# Altium integrated library Actel ProASIC3 nano.IntLib: 84 symbols (part 1 of 10)
Pins are listed as number, name and electrical type; pins without a type are passive.

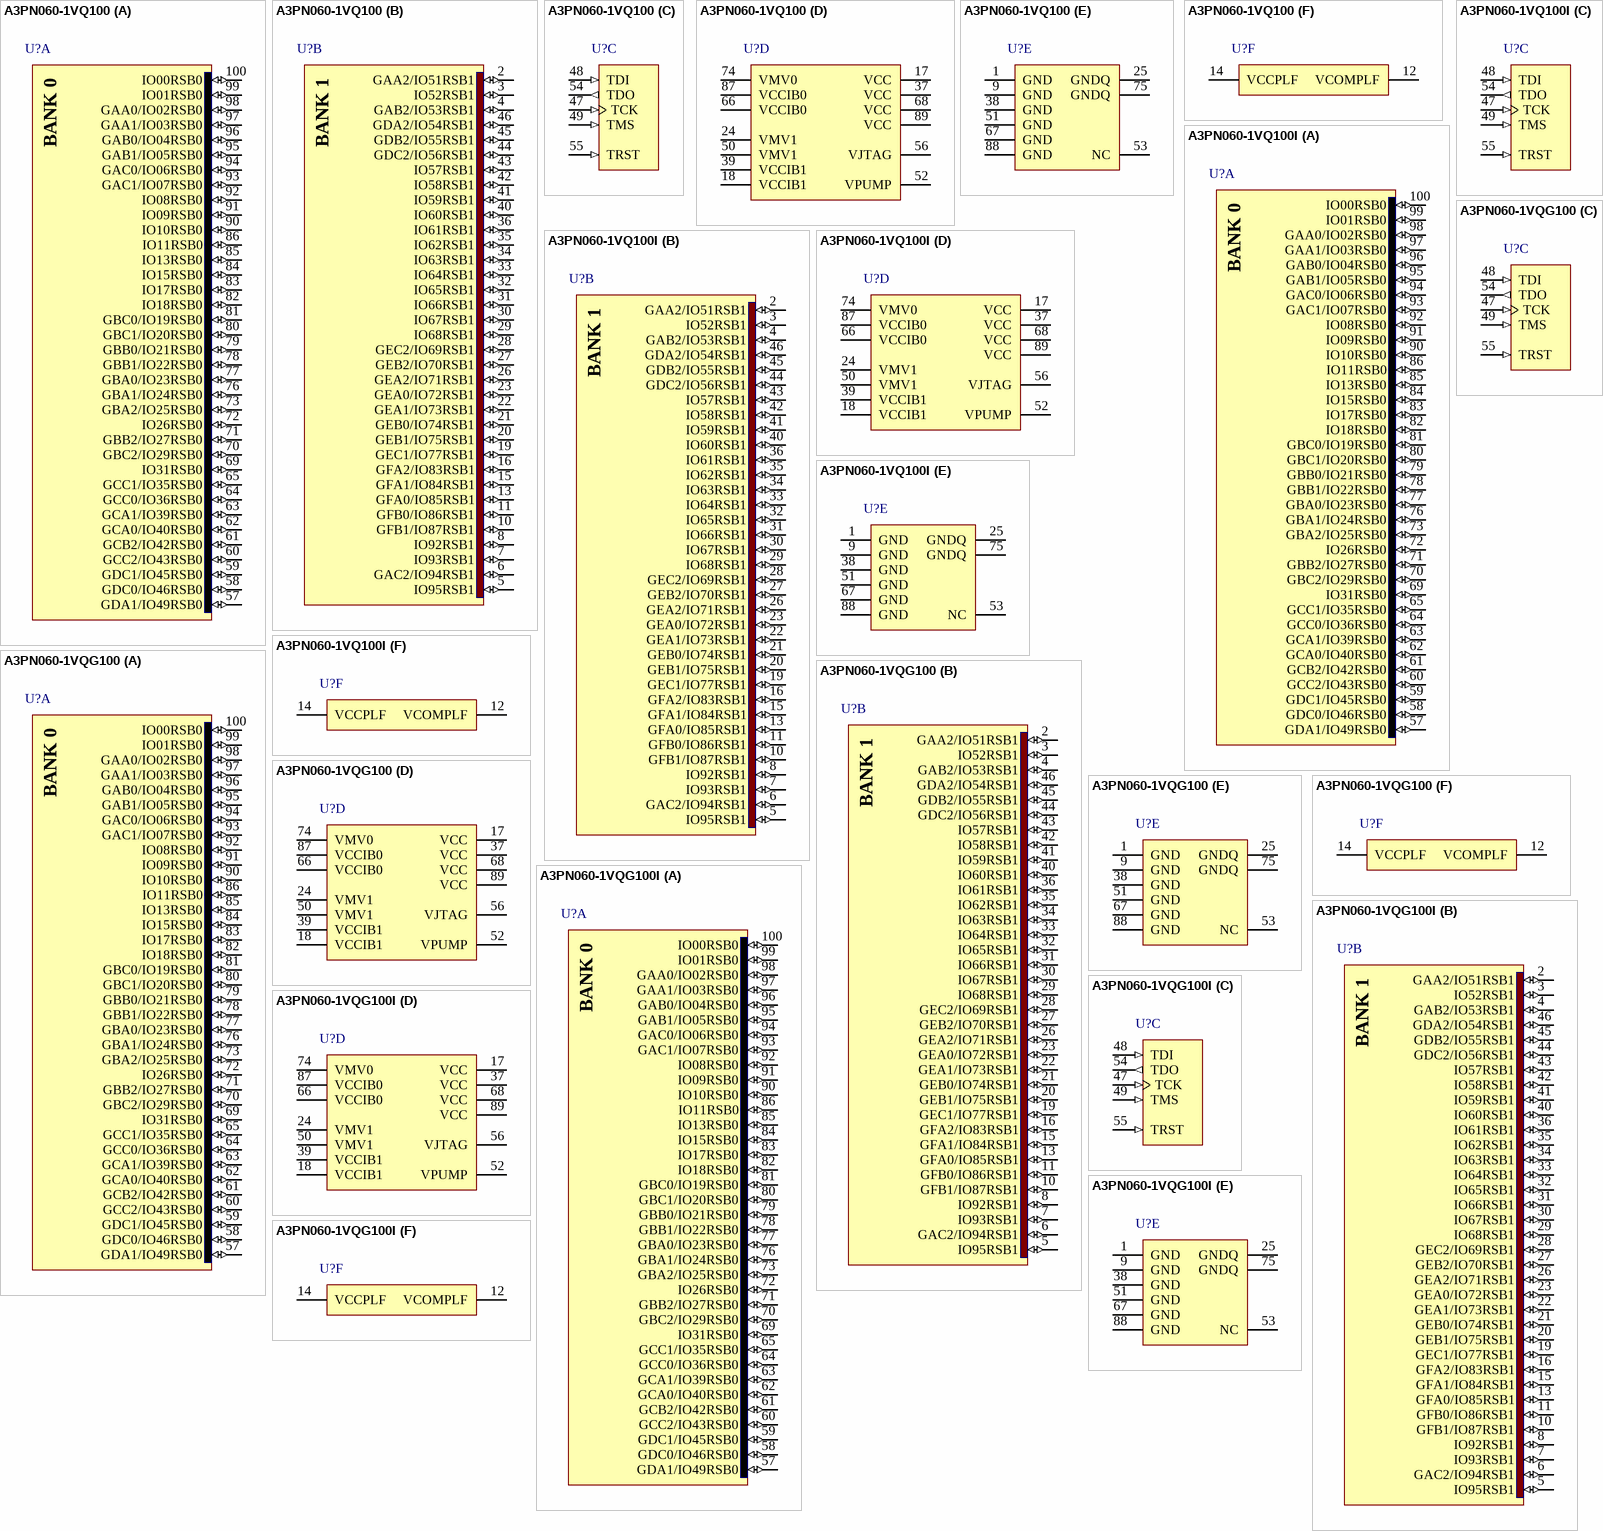
[diagram p0: symbols A3PN060-1VQ100 to A3PN060-1VQG100I]

## A3PN060-1VQ100
designator U?
ProASIC3 nano Flash FPGA, 71 User IOs, 60K System Gates, Speed 15% above Standard, 100-Pin VQFP, Commerical Grade; Published: 30-Apr-2009; DatasheetVersion: v1.2, Dec-2008; PackageVersion: v11.0, Feb-2009; PackageReference: VQ100; Publisher: Altium Limited; PackageDescription: 100-Pin Plastic Quad Flat Pack (VQ100); Code_JEDEC: MS-026-AED; ComponentLink1Description: Manufacturer Link; ComponentLink1URL: http://www.actel.com/products/pa3nano/default.aspx; ComponentLink2Description: Datasheet; ComponentLink2URL: http://www.actel.com/documents/PA3_nano_HB.pdf; ComponentLink3Description: Packaging Specification; ComponentLink3URL: http://www.actel.com/documents/PckgMechDrwngs.pdf
footprint VQ100_N (Thin QFP, 100-Leads, Body 14x14mm, Pitch 0.5mm, IPC Medium Density)
footprint VQ100_L (Thin QFP, 100-Leads, Body 14x14mm, Pitch 0.5mm, IPC High Density)
footprint VQ100_M (Thin QFP, 100-Leads, Body 14x14mm, Pitch 0.5mm, IPC Low Density)
3D model A3PN060-VQ100 (100-Pin Plastic Quad Flat Pack (VQ100))
signal-integrity model A3PN060_VQ100 (ProASIC3 nano)
part A pins: 57 GDA1/IO49RSB0 (io) "Global Input/Output", 58 GDC0/IO46RSB0 (io) "Global Input/Output", 59 GDC1/IO45RSB0 (io) "Global Input/Output", 60 GCC2/IO43RSB0 (io) "Global Input/Output", 61 GCB2/IO42RSB0 (io) "Global Input/Output", 62 GCA0/IO40RSB0 (io) "Global Input/Output", 63 GCA1/IO39RSB0 (io) "Global Input/Output", 64 GCC0/IO36RSB0 (io) "Global Input/Output", 65 GCC1/IO35RSB0 (io) "Global Input/Output", 69 IO31RSB0 (io) "User Input/Output", 70 GBC2/IO29RSB0 (io) "Global Input/Output", 71 GBB2/IO27RSB0 (io) "Global Input/Output", 72 IO26RSB0 (io) "User Input/Output", 73 GBA2/IO25RSB0 (io) "Global Input/Output", 76 GBA1/IO24RSB0 (io) "Global Input/Output", 77 GBA0/IO23RSB0 (io) "Global Input/Output", 78 GBB1/IO22RSB0 (io) "Global Input/Output", 79 GBB0/IO21RSB0 (io) "Global Input/Output", 80 GBC1/IO20RSB0 (io) "Global Input/Output", 81 GBC0/IO19RSB0 (io) "Global Input/Output", 82 IO18RSB0 (io) "User Input/Output", 83 IO17RSB0 (io) "User Input/Output", 84 IO15RSB0 (io) "User Input/Output", 85 IO13RSB0 (io) "User Input/Output", 86 IO11RSB0 (io) "User Input/Output", 90 IO10RSB0 (io) "User Input/Output", 91 IO09RSB0 (io) "User Input/Output", 92 IO08RSB0 (io) "User Input/Output", 93 GAC1/IO07RSB0 (io) "Global Input/Output", 94 GAC0/IO06RSB0 (io) "Global Input/Output", 95 GAB1/IO05RSB0 (io) "Global Input/Output", 96 GAB0/IO04RSB0 (io) "Global Input/Output", 97 GAA1/IO03RSB0 (io) "Global Input/Output", 98 GAA0/IO02RSB0 (io) "Global Input/Output", 99 IO01RSB0 (io) "User Input/Output", 100 IO00RSB0 (io) "User Input/Output"
part B pins: 2 GAA2/IO51RSB1 (io) "Global Input/Output", 3 IO52RSB1 (io) "User Input/Output", 4 GAB2/IO53RSB1 (io) "Global Input/Output", 5 IO95RSB1 (io) "User Input/Output", 6 GAC2/IO94RSB1 (io) "Global Input/Output", 7 IO93RSB1 (io) "User Input/Output", 8 IO92RSB1 (io) "User Input/Output", 10 GFB1/IO87RSB1 (io) "Global Input/Output", 11 GFB0/IO86RSB1 (io) "Global Input/Output", 13 GFA0/IO85RSB1 (io) "Global Input/Output", 15 GFA1/IO84RSB1 (io) "Global Input/Output", 16 GFA2/IO83RSB1 (io) "Global Input/Output", 19 GEC1/IO77RSB1 (io) "Global Input/Output", 20 GEB1/IO75RSB1 (io) "Global Input/Output", 21 GEB0/IO74RSB1 (io) "Global Input/Output", 22 GEA1/IO73RSB1 (io) "Global Input/Output", 23 GEA0/IO72RSB1 (io) "Global Input/Output", 26 GEA2/IO71RSB1 (io) "Global Input/Output", 27 GEB2/IO70RSB1 (io) "Global Input/Output", 28 GEC2/IO69RSB1 (io) "Global Input/Output", 29 IO68RSB1 (io) "User Input/Output", 30 IO67RSB1 (io) "User Input/Output", 31 IO66RSB1 (io) "User Input/Output", 32 IO65RSB1 (io) "User Input/Output", 33 IO64RSB1 (io) "User Input/Output", 34 IO63RSB1 (io) "User Input/Output", 35 IO62RSB1 (io) "User Input/Output", 36 IO61RSB1 (io) "User Input/Output", 40 IO60RSB1 (io) "User Input/Output", 41 IO59RSB1 (io) "User Input/Output", 42 IO58RSB1 (io) "User Input/Output", 43 IO57RSB1 (io) "User Input/Output", 44 GDC2/IO56RSB1 (io) "Global Input/Output", 45 GDB2/IO55RSB1 (io) "Global Input/Output", 46 GDA2/IO54RSB1 (io) "Global Input/Output"
part C pins: 47 TCK (in) "Test Clock", 48 TDI (in) "Test Data Input", 49 TMS (in) "Test Mode Select", 54 TDO (out) "Test Data Output", 55 TRST (in) "Boundary Scan Reset Pin"
part D pins: 17 VCC (power) "Core Supply Voltage", 18 VCCIB1 (power) "I/O Supply Voltage", 24 VMV1 (power) "I/O Supply Voltage (quiet)", 37 VCC (power) "Core Supply Voltage", 39 VCCIB1 (power) "I/O Supply Voltage", 50 VMV1 (power) "I/O Supply Voltage (quiet)", 52 VPUMP (power) "Programming Supply Voltage", 56 VJTAG (power) "JTAG Supply Voltage", 66 VCCIB0 (power) "I/O Supply Voltage", 68 VCC (power) "Core Supply Voltage", 74 VMV0 (power) "I/O Supply Voltage (quiet)", 87 VCCIB0 (power) "I/O Supply Voltage", 89 VCC (power) "Core Supply Voltage"
part E pins: 1 GND (power) "Ground", 9 GND (power) "Ground", 25 GNDQ (power) "Ground (Quiet)", 38 GND (power) "Ground", 51 GND (power) "Ground", 53 NC "No Connect", 67 GND (power) "Ground", 75 GNDQ (power) "Ground (Quiet)", 88 GND (power) "Ground"
part F pins: 12 VCOMPLF (power) "PLL Ground", 14 VCCPLF (power) "PLL Supply Voltage"
part A text: BANK 0
part B text: BANK 1

## A3PN060-1VQ100I
designator U?
ProASIC3 nano Flash FPGA, 71 User IOs, 60K System Gates, Speed 15% above Standard, 100-Pin VQFP, Industrial Grade; Published: 30-Apr-2009; DatasheetVersion: v1.2, Dec-2008; PackageVersion: v11.0, Feb-2009; PackageReference: VQ100; Publisher: Altium Limited; PackageDescription: 100-Pin Plastic Quad Flat Pack (VQ100); Code_JEDEC: MS-026-AED; ComponentLink1Description: Manufacturer Link; ComponentLink1URL: http://www.actel.com/products/pa3nano/default.aspx; ComponentLink2Description: Datasheet; ComponentLink2URL: http://www.actel.com/documents/PA3_nano_HB.pdf; ComponentLink3Description: Packaging Specification; ComponentLink3URL: http://www.actel.com/documents/PckgMechDrwngs.pdf
footprint VQ100_N (Thin QFP, 100-Leads, Body 14x14mm, Pitch 0.5mm, IPC Medium Density)
footprint VQ100_L (Thin QFP, 100-Leads, Body 14x14mm, Pitch 0.5mm, IPC High Density)
footprint VQ100_M (Thin QFP, 100-Leads, Body 14x14mm, Pitch 0.5mm, IPC Low Density)
3D model A3PN060-VQ100 (100-Pin Plastic Quad Flat Pack (VQ100))
signal-integrity model A3PN060_VQ100 (ProASIC3 nano)
part A pins: 57 GDA1/IO49RSB0 (io) "Global Input/Output", 58 GDC0/IO46RSB0 (io) "Global Input/Output", 59 GDC1/IO45RSB0 (io) "Global Input/Output", 60 GCC2/IO43RSB0 (io) "Global Input/Output", 61 GCB2/IO42RSB0 (io) "Global Input/Output", 62 GCA0/IO40RSB0 (io) "Global Input/Output", 63 GCA1/IO39RSB0 (io) "Global Input/Output", 64 GCC0/IO36RSB0 (io) "Global Input/Output", 65 GCC1/IO35RSB0 (io) "Global Input/Output", 69 IO31RSB0 (io) "User Input/Output", 70 GBC2/IO29RSB0 (io) "Global Input/Output", 71 GBB2/IO27RSB0 (io) "Global Input/Output", 72 IO26RSB0 (io) "User Input/Output", 73 GBA2/IO25RSB0 (io) "Global Input/Output", 76 GBA1/IO24RSB0 (io) "Global Input/Output", 77 GBA0/IO23RSB0 (io) "Global Input/Output", 78 GBB1/IO22RSB0 (io) "Global Input/Output", 79 GBB0/IO21RSB0 (io) "Global Input/Output", 80 GBC1/IO20RSB0 (io) "Global Input/Output", 81 GBC0/IO19RSB0 (io) "Global Input/Output", 82 IO18RSB0 (io) "User Input/Output", 83 IO17RSB0 (io) "User Input/Output", 84 IO15RSB0 (io) "User Input/Output", 85 IO13RSB0 (io) "User Input/Output", 86 IO11RSB0 (io) "User Input/Output", 90 IO10RSB0 (io) "User Input/Output", 91 IO09RSB0 (io) "User Input/Output", 92 IO08RSB0 (io) "User Input/Output", 93 GAC1/IO07RSB0 (io) "Global Input/Output", 94 GAC0/IO06RSB0 (io) "Global Input/Output", 95 GAB1/IO05RSB0 (io) "Global Input/Output", 96 GAB0/IO04RSB0 (io) "Global Input/Output", 97 GAA1/IO03RSB0 (io) "Global Input/Output", 98 GAA0/IO02RSB0 (io) "Global Input/Output", 99 IO01RSB0 (io) "User Input/Output", 100 IO00RSB0 (io) "User Input/Output"
part B pins: 2 GAA2/IO51RSB1 (io) "Global Input/Output", 3 IO52RSB1 (io) "User Input/Output", 4 GAB2/IO53RSB1 (io) "Global Input/Output", 5 IO95RSB1 (io) "User Input/Output", 6 GAC2/IO94RSB1 (io) "Global Input/Output", 7 IO93RSB1 (io) "User Input/Output", 8 IO92RSB1 (io) "User Input/Output", 10 GFB1/IO87RSB1 (io) "Global Input/Output", 11 GFB0/IO86RSB1 (io) "Global Input/Output", 13 GFA0/IO85RSB1 (io) "Global Input/Output", 15 GFA1/IO84RSB1 (io) "Global Input/Output", 16 GFA2/IO83RSB1 (io) "Global Input/Output", 19 GEC1/IO77RSB1 (io) "Global Input/Output", 20 GEB1/IO75RSB1 (io) "Global Input/Output", 21 GEB0/IO74RSB1 (io) "Global Input/Output", 22 GEA1/IO73RSB1 (io) "Global Input/Output", 23 GEA0/IO72RSB1 (io) "Global Input/Output", 26 GEA2/IO71RSB1 (io) "Global Input/Output", 27 GEB2/IO70RSB1 (io) "Global Input/Output", 28 GEC2/IO69RSB1 (io) "Global Input/Output", 29 IO68RSB1 (io) "User Input/Output", 30 IO67RSB1 (io) "User Input/Output", 31 IO66RSB1 (io) "User Input/Output", 32 IO65RSB1 (io) "User Input/Output", 33 IO64RSB1 (io) "User Input/Output", 34 IO63RSB1 (io) "User Input/Output", 35 IO62RSB1 (io) "User Input/Output", 36 IO61RSB1 (io) "User Input/Output", 40 IO60RSB1 (io) "User Input/Output", 41 IO59RSB1 (io) "User Input/Output", 42 IO58RSB1 (io) "User Input/Output", 43 IO57RSB1 (io) "User Input/Output", 44 GDC2/IO56RSB1 (io) "Global Input/Output", 45 GDB2/IO55RSB1 (io) "Global Input/Output", 46 GDA2/IO54RSB1 (io) "Global Input/Output"
part C pins: 47 TCK (in) "Test Clock", 48 TDI (in) "Test Data Input", 49 TMS (in) "Test Mode Select", 54 TDO (out) "Test Data Output", 55 TRST (in) "Boundary Scan Reset Pin"
part D pins: 17 VCC (power) "Core Supply Voltage", 18 VCCIB1 (power) "I/O Supply Voltage", 24 VMV1 (power) "I/O Supply Voltage (quiet)", 37 VCC (power) "Core Supply Voltage", 39 VCCIB1 (power) "I/O Supply Voltage", 50 VMV1 (power) "I/O Supply Voltage (quiet)", 52 VPUMP (power) "Programming Supply Voltage", 56 VJTAG (power) "JTAG Supply Voltage", 66 VCCIB0 (power) "I/O Supply Voltage", 68 VCC (power) "Core Supply Voltage", 74 VMV0 (power) "I/O Supply Voltage (quiet)", 87 VCCIB0 (power) "I/O Supply Voltage", 89 VCC (power) "Core Supply Voltage"
part E pins: 1 GND (power) "Ground", 9 GND (power) "Ground", 25 GNDQ (power) "Ground (Quiet)", 38 GND (power) "Ground", 51 GND (power) "Ground", 53 NC "No Connect", 67 GND (power) "Ground", 75 GNDQ (power) "Ground (Quiet)", 88 GND (power) "Ground"
part F pins: 12 VCOMPLF (power) "PLL Ground", 14 VCCPLF (power) "PLL Supply Voltage"
part A text: BANK 0
part B text: BANK 1

## A3PN060-1VQG100
designator U?
ProASIC3 nano Flash FPGA, 71 User IOs, 60K System Gates, Speed 15% above Standard, 100-Pin VQFP, Pb-Free, Commerical Grade; Published: 30-Apr-2009; DatasheetVersion: v1.2, Dec-2008; PackageVersion: v11.0, Feb-2009; PackageReference: VQ100; Publisher: Altium Limited; PackageDescription: 100-Pin Plastic Quad Flat Pack (VQ100); Code_JEDEC: MS-026-AED; ComponentLink1Description: Manufacturer Link; ComponentLink1URL: http://www.actel.com/products/pa3nano/default.aspx; ComponentLink2Description: Datasheet; ComponentLink2URL: http://www.actel.com/documents/PA3_nano_HB.pdf; ComponentLink3Description: Packaging Specification; ComponentLink3URL: http://www.actel.com/documents/PckgMechDrwngs.pdf
footprint VQ100_N (Thin QFP, 100-Leads, Body 14x14mm, Pitch 0.5mm, IPC Medium Density)
footprint VQ100_L (Thin QFP, 100-Leads, Body 14x14mm, Pitch 0.5mm, IPC High Density)
footprint VQ100_M (Thin QFP, 100-Leads, Body 14x14mm, Pitch 0.5mm, IPC Low Density)
3D model A3PN060-VQ100 (100-Pin Plastic Quad Flat Pack (VQ100))
signal-integrity model A3PN060_VQ100 (ProASIC3 nano)
part A pins: 57 GDA1/IO49RSB0 (io) "Global Input/Output", 58 GDC0/IO46RSB0 (io) "Global Input/Output", 59 GDC1/IO45RSB0 (io) "Global Input/Output", 60 GCC2/IO43RSB0 (io) "Global Input/Output", 61 GCB2/IO42RSB0 (io) "Global Input/Output", 62 GCA0/IO40RSB0 (io) "Global Input/Output", 63 GCA1/IO39RSB0 (io) "Global Input/Output", 64 GCC0/IO36RSB0 (io) "Global Input/Output", 65 GCC1/IO35RSB0 (io) "Global Input/Output", 69 IO31RSB0 (io) "User Input/Output", 70 GBC2/IO29RSB0 (io) "Global Input/Output", 71 GBB2/IO27RSB0 (io) "Global Input/Output", 72 IO26RSB0 (io) "User Input/Output", 73 GBA2/IO25RSB0 (io) "Global Input/Output", 76 GBA1/IO24RSB0 (io) "Global Input/Output", 77 GBA0/IO23RSB0 (io) "Global Input/Output", 78 GBB1/IO22RSB0 (io) "Global Input/Output", 79 GBB0/IO21RSB0 (io) "Global Input/Output", 80 GBC1/IO20RSB0 (io) "Global Input/Output", 81 GBC0/IO19RSB0 (io) "Global Input/Output", 82 IO18RSB0 (io) "User Input/Output", 83 IO17RSB0 (io) "User Input/Output", 84 IO15RSB0 (io) "User Input/Output", 85 IO13RSB0 (io) "User Input/Output", 86 IO11RSB0 (io) "User Input/Output", 90 IO10RSB0 (io) "User Input/Output", 91 IO09RSB0 (io) "User Input/Output", 92 IO08RSB0 (io) "User Input/Output", 93 GAC1/IO07RSB0 (io) "Global Input/Output", 94 GAC0/IO06RSB0 (io) "Global Input/Output", 95 GAB1/IO05RSB0 (io) "Global Input/Output", 96 GAB0/IO04RSB0 (io) "Global Input/Output", 97 GAA1/IO03RSB0 (io) "Global Input/Output", 98 GAA0/IO02RSB0 (io) "Global Input/Output", 99 IO01RSB0 (io) "User Input/Output", 100 IO00RSB0 (io) "User Input/Output"
part B pins: 2 GAA2/IO51RSB1 (io) "Global Input/Output", 3 IO52RSB1 (io) "User Input/Output", 4 GAB2/IO53RSB1 (io) "Global Input/Output", 5 IO95RSB1 (io) "User Input/Output", 6 GAC2/IO94RSB1 (io) "Global Input/Output", 7 IO93RSB1 (io) "User Input/Output", 8 IO92RSB1 (io) "User Input/Output", 10 GFB1/IO87RSB1 (io) "Global Input/Output", 11 GFB0/IO86RSB1 (io) "Global Input/Output", 13 GFA0/IO85RSB1 (io) "Global Input/Output", 15 GFA1/IO84RSB1 (io) "Global Input/Output", 16 GFA2/IO83RSB1 (io) "Global Input/Output", 19 GEC1/IO77RSB1 (io) "Global Input/Output", 20 GEB1/IO75RSB1 (io) "Global Input/Output", 21 GEB0/IO74RSB1 (io) "Global Input/Output", 22 GEA1/IO73RSB1 (io) "Global Input/Output", 23 GEA0/IO72RSB1 (io) "Global Input/Output", 26 GEA2/IO71RSB1 (io) "Global Input/Output", 27 GEB2/IO70RSB1 (io) "Global Input/Output", 28 GEC2/IO69RSB1 (io) "Global Input/Output", 29 IO68RSB1 (io) "User Input/Output", 30 IO67RSB1 (io) "User Input/Output", 31 IO66RSB1 (io) "User Input/Output", 32 IO65RSB1 (io) "User Input/Output", 33 IO64RSB1 (io) "User Input/Output", 34 IO63RSB1 (io) "User Input/Output", 35 IO62RSB1 (io) "User Input/Output", 36 IO61RSB1 (io) "User Input/Output", 40 IO60RSB1 (io) "User Input/Output", 41 IO59RSB1 (io) "User Input/Output", 42 IO58RSB1 (io) "User Input/Output", 43 IO57RSB1 (io) "User Input/Output", 44 GDC2/IO56RSB1 (io) "Global Input/Output", 45 GDB2/IO55RSB1 (io) "Global Input/Output", 46 GDA2/IO54RSB1 (io) "Global Input/Output"
part C pins: 47 TCK (in) "Test Clock", 48 TDI (in) "Test Data Input", 49 TMS (in) "Test Mode Select", 54 TDO (out) "Test Data Output", 55 TRST (in) "Boundary Scan Reset Pin"
part D pins: 17 VCC (power) "Core Supply Voltage", 18 VCCIB1 (power) "I/O Supply Voltage", 24 VMV1 (power) "I/O Supply Voltage (quiet)", 37 VCC (power) "Core Supply Voltage", 39 VCCIB1 (power) "I/O Supply Voltage", 50 VMV1 (power) "I/O Supply Voltage (quiet)", 52 VPUMP (power) "Programming Supply Voltage", 56 VJTAG (power) "JTAG Supply Voltage", 66 VCCIB0 (power) "I/O Supply Voltage", 68 VCC (power) "Core Supply Voltage", 74 VMV0 (power) "I/O Supply Voltage (quiet)", 87 VCCIB0 (power) "I/O Supply Voltage", 89 VCC (power) "Core Supply Voltage"
part E pins: 1 GND (power) "Ground", 9 GND (power) "Ground", 25 GNDQ (power) "Ground (Quiet)", 38 GND (power) "Ground", 51 GND (power) "Ground", 53 NC "No Connect", 67 GND (power) "Ground", 75 GNDQ (power) "Ground (Quiet)", 88 GND (power) "Ground"
part F pins: 12 VCOMPLF (power) "PLL Ground", 14 VCCPLF (power) "PLL Supply Voltage"
part A text: BANK 0
part B text: BANK 1

## A3PN060-1VQG100I
designator U?
ProASIC3 nano Flash FPGA, 71 User IOs, 60K System Gates, Speed 15% above Standard, 100-Pin VQFP, Pb-Free, Industrial Grade; Published: 30-Apr-2009; DatasheetVersion: v1.2, Dec-2008; PackageVersion: v11.0, Feb-2009; PackageReference: VQ100; Publisher: Altium Limited; PackageDescription: 100-Pin Plastic Quad Flat Pack (VQ100); Code_JEDEC: MS-026-AED; ComponentLink1Description: Manufacturer Link; ComponentLink1URL: http://www.actel.com/products/pa3nano/default.aspx; ComponentLink2Description: Datasheet; ComponentLink2URL: http://www.actel.com/documents/PA3_nano_HB.pdf; ComponentLink3Description: Packaging Specification; ComponentLink3URL: http://www.actel.com/documents/PckgMechDrwngs.pdf
footprint VQ100_N (Thin QFP, 100-Leads, Body 14x14mm, Pitch 0.5mm, IPC Medium Density)
footprint VQ100_L (Thin QFP, 100-Leads, Body 14x14mm, Pitch 0.5mm, IPC High Density)
footprint VQ100_M (Thin QFP, 100-Leads, Body 14x14mm, Pitch 0.5mm, IPC Low Density)
3D model A3PN060-VQ100 (100-Pin Plastic Quad Flat Pack (VQ100))
signal-integrity model A3PN060_VQ100 (ProASIC3 nano)
part A pins: 57 GDA1/IO49RSB0 (io) "Global Input/Output", 58 GDC0/IO46RSB0 (io) "Global Input/Output", 59 GDC1/IO45RSB0 (io) "Global Input/Output", 60 GCC2/IO43RSB0 (io) "Global Input/Output", 61 GCB2/IO42RSB0 (io) "Global Input/Output", 62 GCA0/IO40RSB0 (io) "Global Input/Output", 63 GCA1/IO39RSB0 (io) "Global Input/Output", 64 GCC0/IO36RSB0 (io) "Global Input/Output", 65 GCC1/IO35RSB0 (io) "Global Input/Output", 69 IO31RSB0 (io) "User Input/Output", 70 GBC2/IO29RSB0 (io) "Global Input/Output", 71 GBB2/IO27RSB0 (io) "Global Input/Output", 72 IO26RSB0 (io) "User Input/Output", 73 GBA2/IO25RSB0 (io) "Global Input/Output", 76 GBA1/IO24RSB0 (io) "Global Input/Output", 77 GBA0/IO23RSB0 (io) "Global Input/Output", 78 GBB1/IO22RSB0 (io) "Global Input/Output", 79 GBB0/IO21RSB0 (io) "Global Input/Output", 80 GBC1/IO20RSB0 (io) "Global Input/Output", 81 GBC0/IO19RSB0 (io) "Global Input/Output", 82 IO18RSB0 (io) "User Input/Output", 83 IO17RSB0 (io) "User Input/Output", 84 IO15RSB0 (io) "User Input/Output", 85 IO13RSB0 (io) "User Input/Output", 86 IO11RSB0 (io) "User Input/Output", 90 IO10RSB0 (io) "User Input/Output", 91 IO09RSB0 (io) "User Input/Output", 92 IO08RSB0 (io) "User Input/Output", 93 GAC1/IO07RSB0 (io) "Global Input/Output", 94 GAC0/IO06RSB0 (io) "Global Input/Output", 95 GAB1/IO05RSB0 (io) "Global Input/Output", 96 GAB0/IO04RSB0 (io) "Global Input/Output", 97 GAA1/IO03RSB0 (io) "Global Input/Output", 98 GAA0/IO02RSB0 (io) "Global Input/Output", 99 IO01RSB0 (io) "User Input/Output", 100 IO00RSB0 (io) "User Input/Output"
part B pins: 2 GAA2/IO51RSB1 (io) "Global Input/Output", 3 IO52RSB1 (io) "User Input/Output", 4 GAB2/IO53RSB1 (io) "Global Input/Output", 5 IO95RSB1 (io) "User Input/Output", 6 GAC2/IO94RSB1 (io) "Global Input/Output", 7 IO93RSB1 (io) "User Input/Output", 8 IO92RSB1 (io) "User Input/Output", 10 GFB1/IO87RSB1 (io) "Global Input/Output", 11 GFB0/IO86RSB1 (io) "Global Input/Output", 13 GFA0/IO85RSB1 (io) "Global Input/Output", 15 GFA1/IO84RSB1 (io) "Global Input/Output", 16 GFA2/IO83RSB1 (io) "Global Input/Output", 19 GEC1/IO77RSB1 (io) "Global Input/Output", 20 GEB1/IO75RSB1 (io) "Global Input/Output", 21 GEB0/IO74RSB1 (io) "Global Input/Output", 22 GEA1/IO73RSB1 (io) "Global Input/Output", 23 GEA0/IO72RSB1 (io) "Global Input/Output", 26 GEA2/IO71RSB1 (io) "Global Input/Output", 27 GEB2/IO70RSB1 (io) "Global Input/Output", 28 GEC2/IO69RSB1 (io) "Global Input/Output", 29 IO68RSB1 (io) "User Input/Output", 30 IO67RSB1 (io) "User Input/Output", 31 IO66RSB1 (io) "User Input/Output", 32 IO65RSB1 (io) "User Input/Output", 33 IO64RSB1 (io) "User Input/Output", 34 IO63RSB1 (io) "User Input/Output", 35 IO62RSB1 (io) "User Input/Output", 36 IO61RSB1 (io) "User Input/Output", 40 IO60RSB1 (io) "User Input/Output", 41 IO59RSB1 (io) "User Input/Output", 42 IO58RSB1 (io) "User Input/Output", 43 IO57RSB1 (io) "User Input/Output", 44 GDC2/IO56RSB1 (io) "Global Input/Output", 45 GDB2/IO55RSB1 (io) "Global Input/Output", 46 GDA2/IO54RSB1 (io) "Global Input/Output"
part C pins: 47 TCK (in) "Test Clock", 48 TDI (in) "Test Data Input", 49 TMS (in) "Test Mode Select", 54 TDO (out) "Test Data Output", 55 TRST (in) "Boundary Scan Reset Pin"
part D pins: 17 VCC (power) "Core Supply Voltage", 18 VCCIB1 (power) "I/O Supply Voltage", 24 VMV1 (power) "I/O Supply Voltage (quiet)", 37 VCC (power) "Core Supply Voltage", 39 VCCIB1 (power) "I/O Supply Voltage", 50 VMV1 (power) "I/O Supply Voltage (quiet)", 52 VPUMP (power) "Programming Supply Voltage", 56 VJTAG (power) "JTAG Supply Voltage", 66 VCCIB0 (power) "I/O Supply Voltage", 68 VCC (power) "Core Supply Voltage", 74 VMV0 (power) "I/O Supply Voltage (quiet)", 87 VCCIB0 (power) "I/O Supply Voltage", 89 VCC (power) "Core Supply Voltage"
part E pins: 1 GND (power) "Ground", 9 GND (power) "Ground", 25 GNDQ (power) "Ground (Quiet)", 38 GND (power) "Ground", 51 GND (power) "Ground", 53 NC "No Connect", 67 GND (power) "Ground", 75 GNDQ (power) "Ground (Quiet)", 88 GND (power) "Ground"
part F pins: 12 VCOMPLF (power) "PLL Ground", 14 VCCPLF (power) "PLL Supply Voltage"
part A text: BANK 0
part B text: BANK 1

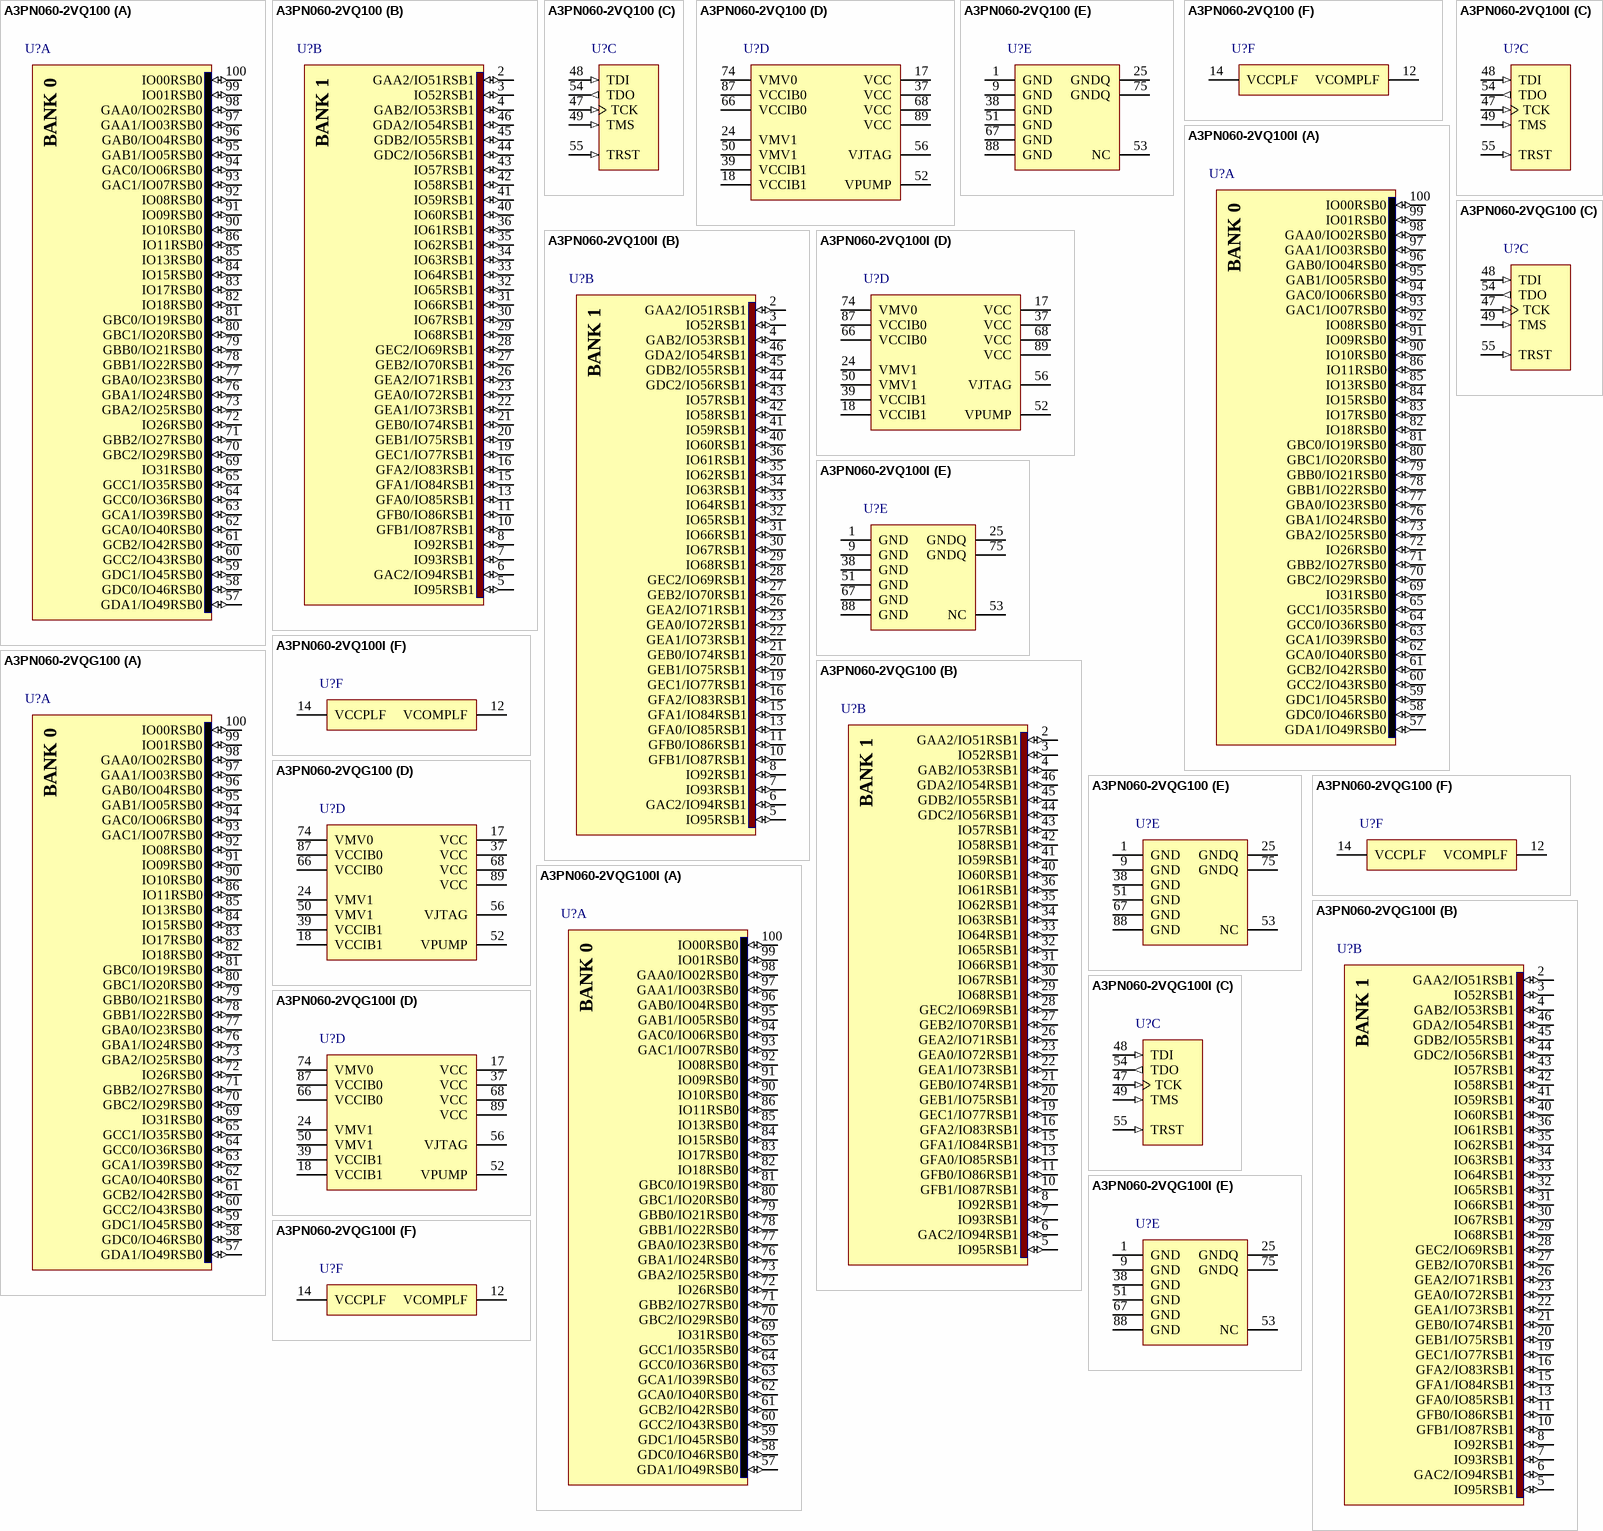
[diagram p1: symbols A3PN060-2VQ100 to A3PN060-2VQG100I]

## A3PN060-2VQ100
designator U?
ProASIC3 nano Flash FPGA, 71 User IOs, 60K System Gates, Speed 25% above Standard, 100-Pin VQFP, Commerical Grade; Published: 30-Apr-2009; DatasheetVersion: v1.2, Dec-2008; PackageVersion: v11.0, Feb-2009; PackageReference: VQ100; Publisher: Altium Limited; PackageDescription: 100-Pin Plastic Quad Flat Pack (VQ100); Code_JEDEC: MS-026-AED; ComponentLink1Description: Manufacturer Link; ComponentLink1URL: http://www.actel.com/products/pa3nano/default.aspx; ComponentLink2Description: Datasheet; ComponentLink2URL: http://www.actel.com/documents/PA3_nano_HB.pdf; ComponentLink3Description: Packaging Specification; ComponentLink3URL: http://www.actel.com/documents/PckgMechDrwngs.pdf
footprint VQ100_N (Thin QFP, 100-Leads, Body 14x14mm, Pitch 0.5mm, IPC Medium Density)
footprint VQ100_L (Thin QFP, 100-Leads, Body 14x14mm, Pitch 0.5mm, IPC High Density)
footprint VQ100_M (Thin QFP, 100-Leads, Body 14x14mm, Pitch 0.5mm, IPC Low Density)
3D model A3PN060-VQ100 (100-Pin Plastic Quad Flat Pack (VQ100))
signal-integrity model A3PN060_VQ100 (ProASIC3 nano)
part A pins: 57 GDA1/IO49RSB0 (io) "Global Input/Output", 58 GDC0/IO46RSB0 (io) "Global Input/Output", 59 GDC1/IO45RSB0 (io) "Global Input/Output", 60 GCC2/IO43RSB0 (io) "Global Input/Output", 61 GCB2/IO42RSB0 (io) "Global Input/Output", 62 GCA0/IO40RSB0 (io) "Global Input/Output", 63 GCA1/IO39RSB0 (io) "Global Input/Output", 64 GCC0/IO36RSB0 (io) "Global Input/Output", 65 GCC1/IO35RSB0 (io) "Global Input/Output", 69 IO31RSB0 (io) "User Input/Output", 70 GBC2/IO29RSB0 (io) "Global Input/Output", 71 GBB2/IO27RSB0 (io) "Global Input/Output", 72 IO26RSB0 (io) "User Input/Output", 73 GBA2/IO25RSB0 (io) "Global Input/Output", 76 GBA1/IO24RSB0 (io) "Global Input/Output", 77 GBA0/IO23RSB0 (io) "Global Input/Output", 78 GBB1/IO22RSB0 (io) "Global Input/Output", 79 GBB0/IO21RSB0 (io) "Global Input/Output", 80 GBC1/IO20RSB0 (io) "Global Input/Output", 81 GBC0/IO19RSB0 (io) "Global Input/Output", 82 IO18RSB0 (io) "User Input/Output", 83 IO17RSB0 (io) "User Input/Output", 84 IO15RSB0 (io) "User Input/Output", 85 IO13RSB0 (io) "User Input/Output", 86 IO11RSB0 (io) "User Input/Output", 90 IO10RSB0 (io) "User Input/Output", 91 IO09RSB0 (io) "User Input/Output", 92 IO08RSB0 (io) "User Input/Output", 93 GAC1/IO07RSB0 (io) "Global Input/Output", 94 GAC0/IO06RSB0 (io) "Global Input/Output", 95 GAB1/IO05RSB0 (io) "Global Input/Output", 96 GAB0/IO04RSB0 (io) "Global Input/Output", 97 GAA1/IO03RSB0 (io) "Global Input/Output", 98 GAA0/IO02RSB0 (io) "Global Input/Output", 99 IO01RSB0 (io) "User Input/Output", 100 IO00RSB0 (io) "User Input/Output"
part B pins: 2 GAA2/IO51RSB1 (io) "Global Input/Output", 3 IO52RSB1 (io) "User Input/Output", 4 GAB2/IO53RSB1 (io) "Global Input/Output", 5 IO95RSB1 (io) "User Input/Output", 6 GAC2/IO94RSB1 (io) "Global Input/Output", 7 IO93RSB1 (io) "User Input/Output", 8 IO92RSB1 (io) "User Input/Output", 10 GFB1/IO87RSB1 (io) "Global Input/Output", 11 GFB0/IO86RSB1 (io) "Global Input/Output", 13 GFA0/IO85RSB1 (io) "Global Input/Output", 15 GFA1/IO84RSB1 (io) "Global Input/Output", 16 GFA2/IO83RSB1 (io) "Global Input/Output", 19 GEC1/IO77RSB1 (io) "Global Input/Output", 20 GEB1/IO75RSB1 (io) "Global Input/Output", 21 GEB0/IO74RSB1 (io) "Global Input/Output", 22 GEA1/IO73RSB1 (io) "Global Input/Output", 23 GEA0/IO72RSB1 (io) "Global Input/Output", 26 GEA2/IO71RSB1 (io) "Global Input/Output", 27 GEB2/IO70RSB1 (io) "Global Input/Output", 28 GEC2/IO69RSB1 (io) "Global Input/Output", 29 IO68RSB1 (io) "User Input/Output", 30 IO67RSB1 (io) "User Input/Output", 31 IO66RSB1 (io) "User Input/Output", 32 IO65RSB1 (io) "User Input/Output", 33 IO64RSB1 (io) "User Input/Output", 34 IO63RSB1 (io) "User Input/Output", 35 IO62RSB1 (io) "User Input/Output", 36 IO61RSB1 (io) "User Input/Output", 40 IO60RSB1 (io) "User Input/Output", 41 IO59RSB1 (io) "User Input/Output", 42 IO58RSB1 (io) "User Input/Output", 43 IO57RSB1 (io) "User Input/Output", 44 GDC2/IO56RSB1 (io) "Global Input/Output", 45 GDB2/IO55RSB1 (io) "Global Input/Output", 46 GDA2/IO54RSB1 (io) "Global Input/Output"
part C pins: 47 TCK (in) "Test Clock", 48 TDI (in) "Test Data Input", 49 TMS (in) "Test Mode Select", 54 TDO (out) "Test Data Output", 55 TRST (in) "Boundary Scan Reset Pin"
part D pins: 17 VCC (power) "Core Supply Voltage", 18 VCCIB1 (power) "I/O Supply Voltage", 24 VMV1 (power) "I/O Supply Voltage (quiet)", 37 VCC (power) "Core Supply Voltage", 39 VCCIB1 (power) "I/O Supply Voltage", 50 VMV1 (power) "I/O Supply Voltage (quiet)", 52 VPUMP (power) "Programming Supply Voltage", 56 VJTAG (power) "JTAG Supply Voltage", 66 VCCIB0 (power) "I/O Supply Voltage", 68 VCC (power) "Core Supply Voltage", 74 VMV0 (power) "I/O Supply Voltage (quiet)", 87 VCCIB0 (power) "I/O Supply Voltage", 89 VCC (power) "Core Supply Voltage"
part E pins: 1 GND (power) "Ground", 9 GND (power) "Ground", 25 GNDQ (power) "Ground (Quiet)", 38 GND (power) "Ground", 51 GND (power) "Ground", 53 NC "No Connect", 67 GND (power) "Ground", 75 GNDQ (power) "Ground (Quiet)", 88 GND (power) "Ground"
part F pins: 12 VCOMPLF (power) "PLL Ground", 14 VCCPLF (power) "PLL Supply Voltage"
part A text: BANK 0
part B text: BANK 1

## A3PN060-2VQ100I
designator U?
ProASIC3 nano Flash FPGA, 71 User IOs, 60K System Gates, Speed 25% above Standard, 100-Pin VQFP, Industrial Grade; Published: 30-Apr-2009; DatasheetVersion: v1.2, Dec-2008; PackageVersion: v11.0, Feb-2009; PackageReference: VQ100; Publisher: Altium Limited; PackageDescription: 100-Pin Plastic Quad Flat Pack (VQ100); Code_JEDEC: MS-026-AED; ComponentLink1Description: Manufacturer Link; ComponentLink1URL: http://www.actel.com/products/pa3nano/default.aspx; ComponentLink2Description: Datasheet; ComponentLink2URL: http://www.actel.com/documents/PA3_nano_HB.pdf; ComponentLink3Description: Packaging Specification; ComponentLink3URL: http://www.actel.com/documents/PckgMechDrwngs.pdf
footprint VQ100_N (Thin QFP, 100-Leads, Body 14x14mm, Pitch 0.5mm, IPC Medium Density)
footprint VQ100_L (Thin QFP, 100-Leads, Body 14x14mm, Pitch 0.5mm, IPC High Density)
footprint VQ100_M (Thin QFP, 100-Leads, Body 14x14mm, Pitch 0.5mm, IPC Low Density)
3D model A3PN060-VQ100 (100-Pin Plastic Quad Flat Pack (VQ100))
signal-integrity model A3PN060_VQ100 (ProASIC3 nano)
part A pins: 57 GDA1/IO49RSB0 (io) "Global Input/Output", 58 GDC0/IO46RSB0 (io) "Global Input/Output", 59 GDC1/IO45RSB0 (io) "Global Input/Output", 60 GCC2/IO43RSB0 (io) "Global Input/Output", 61 GCB2/IO42RSB0 (io) "Global Input/Output", 62 GCA0/IO40RSB0 (io) "Global Input/Output", 63 GCA1/IO39RSB0 (io) "Global Input/Output", 64 GCC0/IO36RSB0 (io) "Global Input/Output", 65 GCC1/IO35RSB0 (io) "Global Input/Output", 69 IO31RSB0 (io) "User Input/Output", 70 GBC2/IO29RSB0 (io) "Global Input/Output", 71 GBB2/IO27RSB0 (io) "Global Input/Output", 72 IO26RSB0 (io) "User Input/Output", 73 GBA2/IO25RSB0 (io) "Global Input/Output", 76 GBA1/IO24RSB0 (io) "Global Input/Output", 77 GBA0/IO23RSB0 (io) "Global Input/Output", 78 GBB1/IO22RSB0 (io) "Global Input/Output", 79 GBB0/IO21RSB0 (io) "Global Input/Output", 80 GBC1/IO20RSB0 (io) "Global Input/Output", 81 GBC0/IO19RSB0 (io) "Global Input/Output", 82 IO18RSB0 (io) "User Input/Output", 83 IO17RSB0 (io) "User Input/Output", 84 IO15RSB0 (io) "User Input/Output", 85 IO13RSB0 (io) "User Input/Output", 86 IO11RSB0 (io) "User Input/Output", 90 IO10RSB0 (io) "User Input/Output", 91 IO09RSB0 (io) "User Input/Output", 92 IO08RSB0 (io) "User Input/Output", 93 GAC1/IO07RSB0 (io) "Global Input/Output", 94 GAC0/IO06RSB0 (io) "Global Input/Output", 95 GAB1/IO05RSB0 (io) "Global Input/Output", 96 GAB0/IO04RSB0 (io) "Global Input/Output", 97 GAA1/IO03RSB0 (io) "Global Input/Output", 98 GAA0/IO02RSB0 (io) "Global Input/Output", 99 IO01RSB0 (io) "User Input/Output", 100 IO00RSB0 (io) "User Input/Output"
part B pins: 2 GAA2/IO51RSB1 (io) "Global Input/Output", 3 IO52RSB1 (io) "User Input/Output", 4 GAB2/IO53RSB1 (io) "Global Input/Output", 5 IO95RSB1 (io) "User Input/Output", 6 GAC2/IO94RSB1 (io) "Global Input/Output", 7 IO93RSB1 (io) "User Input/Output", 8 IO92RSB1 (io) "User Input/Output", 10 GFB1/IO87RSB1 (io) "Global Input/Output", 11 GFB0/IO86RSB1 (io) "Global Input/Output", 13 GFA0/IO85RSB1 (io) "Global Input/Output", 15 GFA1/IO84RSB1 (io) "Global Input/Output", 16 GFA2/IO83RSB1 (io) "Global Input/Output", 19 GEC1/IO77RSB1 (io) "Global Input/Output", 20 GEB1/IO75RSB1 (io) "Global Input/Output", 21 GEB0/IO74RSB1 (io) "Global Input/Output", 22 GEA1/IO73RSB1 (io) "Global Input/Output", 23 GEA0/IO72RSB1 (io) "Global Input/Output", 26 GEA2/IO71RSB1 (io) "Global Input/Output", 27 GEB2/IO70RSB1 (io) "Global Input/Output", 28 GEC2/IO69RSB1 (io) "Global Input/Output", 29 IO68RSB1 (io) "User Input/Output", 30 IO67RSB1 (io) "User Input/Output", 31 IO66RSB1 (io) "User Input/Output", 32 IO65RSB1 (io) "User Input/Output", 33 IO64RSB1 (io) "User Input/Output", 34 IO63RSB1 (io) "User Input/Output", 35 IO62RSB1 (io) "User Input/Output", 36 IO61RSB1 (io) "User Input/Output", 40 IO60RSB1 (io) "User Input/Output", 41 IO59RSB1 (io) "User Input/Output", 42 IO58RSB1 (io) "User Input/Output", 43 IO57RSB1 (io) "User Input/Output", 44 GDC2/IO56RSB1 (io) "Global Input/Output", 45 GDB2/IO55RSB1 (io) "Global Input/Output", 46 GDA2/IO54RSB1 (io) "Global Input/Output"
part C pins: 47 TCK (in) "Test Clock", 48 TDI (in) "Test Data Input", 49 TMS (in) "Test Mode Select", 54 TDO (out) "Test Data Output", 55 TRST (in) "Boundary Scan Reset Pin"
part D pins: 17 VCC (power) "Core Supply Voltage", 18 VCCIB1 (power) "I/O Supply Voltage", 24 VMV1 (power) "I/O Supply Voltage (quiet)", 37 VCC (power) "Core Supply Voltage", 39 VCCIB1 (power) "I/O Supply Voltage", 50 VMV1 (power) "I/O Supply Voltage (quiet)", 52 VPUMP (power) "Programming Supply Voltage", 56 VJTAG (power) "JTAG Supply Voltage", 66 VCCIB0 (power) "I/O Supply Voltage", 68 VCC (power) "Core Supply Voltage", 74 VMV0 (power) "I/O Supply Voltage (quiet)", 87 VCCIB0 (power) "I/O Supply Voltage", 89 VCC (power) "Core Supply Voltage"
part E pins: 1 GND (power) "Ground", 9 GND (power) "Ground", 25 GNDQ (power) "Ground (Quiet)", 38 GND (power) "Ground", 51 GND (power) "Ground", 53 NC "No Connect", 67 GND (power) "Ground", 75 GNDQ (power) "Ground (Quiet)", 88 GND (power) "Ground"
part F pins: 12 VCOMPLF (power) "PLL Ground", 14 VCCPLF (power) "PLL Supply Voltage"
part A text: BANK 0
part B text: BANK 1

## A3PN060-2VQG100
designator U?
ProASIC3 nano Flash FPGA, 71 User IOs, 60K System Gates, Speed 25% above Standard, 100-Pin VQFP, Pb-Free, Commerical Grade; Published: 30-Apr-2009; DatasheetVersion: v1.2, Dec-2008; PackageVersion: v11.0, Feb-2009; PackageReference: VQ100; Publisher: Altium Limited; PackageDescription: 100-Pin Plastic Quad Flat Pack (VQ100); Code_JEDEC: MS-026-AED; ComponentLink1Description: Manufacturer Link; ComponentLink1URL: http://www.actel.com/products/pa3nano/default.aspx; ComponentLink2Description: Datasheet; ComponentLink2URL: http://www.actel.com/documents/PA3_nano_HB.pdf; ComponentLink3Description: Packaging Specification; ComponentLink3URL: http://www.actel.com/documents/PckgMechDrwngs.pdf
footprint VQ100_N (Thin QFP, 100-Leads, Body 14x14mm, Pitch 0.5mm, IPC Medium Density)
footprint VQ100_L (Thin QFP, 100-Leads, Body 14x14mm, Pitch 0.5mm, IPC High Density)
footprint VQ100_M (Thin QFP, 100-Leads, Body 14x14mm, Pitch 0.5mm, IPC Low Density)
3D model A3PN060-VQ100 (100-Pin Plastic Quad Flat Pack (VQ100))
signal-integrity model A3PN060_VQ100 (ProASIC3 nano)
part A pins: 57 GDA1/IO49RSB0 (io) "Global Input/Output", 58 GDC0/IO46RSB0 (io) "Global Input/Output", 59 GDC1/IO45RSB0 (io) "Global Input/Output", 60 GCC2/IO43RSB0 (io) "Global Input/Output", 61 GCB2/IO42RSB0 (io) "Global Input/Output", 62 GCA0/IO40RSB0 (io) "Global Input/Output", 63 GCA1/IO39RSB0 (io) "Global Input/Output", 64 GCC0/IO36RSB0 (io) "Global Input/Output", 65 GCC1/IO35RSB0 (io) "Global Input/Output", 69 IO31RSB0 (io) "User Input/Output", 70 GBC2/IO29RSB0 (io) "Global Input/Output", 71 GBB2/IO27RSB0 (io) "Global Input/Output", 72 IO26RSB0 (io) "User Input/Output", 73 GBA2/IO25RSB0 (io) "Global Input/Output", 76 GBA1/IO24RSB0 (io) "Global Input/Output", 77 GBA0/IO23RSB0 (io) "Global Input/Output", 78 GBB1/IO22RSB0 (io) "Global Input/Output", 79 GBB0/IO21RSB0 (io) "Global Input/Output", 80 GBC1/IO20RSB0 (io) "Global Input/Output", 81 GBC0/IO19RSB0 (io) "Global Input/Output", 82 IO18RSB0 (io) "User Input/Output", 83 IO17RSB0 (io) "User Input/Output", 84 IO15RSB0 (io) "User Input/Output", 85 IO13RSB0 (io) "User Input/Output", 86 IO11RSB0 (io) "User Input/Output", 90 IO10RSB0 (io) "User Input/Output", 91 IO09RSB0 (io) "User Input/Output", 92 IO08RSB0 (io) "User Input/Output", 93 GAC1/IO07RSB0 (io) "Global Input/Output", 94 GAC0/IO06RSB0 (io) "Global Input/Output", 95 GAB1/IO05RSB0 (io) "Global Input/Output", 96 GAB0/IO04RSB0 (io) "Global Input/Output", 97 GAA1/IO03RSB0 (io) "Global Input/Output", 98 GAA0/IO02RSB0 (io) "Global Input/Output", 99 IO01RSB0 (io) "User Input/Output", 100 IO00RSB0 (io) "User Input/Output"
part B pins: 2 GAA2/IO51RSB1 (io) "Global Input/Output", 3 IO52RSB1 (io) "User Input/Output", 4 GAB2/IO53RSB1 (io) "Global Input/Output", 5 IO95RSB1 (io) "User Input/Output", 6 GAC2/IO94RSB1 (io) "Global Input/Output", 7 IO93RSB1 (io) "User Input/Output", 8 IO92RSB1 (io) "User Input/Output", 10 GFB1/IO87RSB1 (io) "Global Input/Output", 11 GFB0/IO86RSB1 (io) "Global Input/Output", 13 GFA0/IO85RSB1 (io) "Global Input/Output", 15 GFA1/IO84RSB1 (io) "Global Input/Output", 16 GFA2/IO83RSB1 (io) "Global Input/Output", 19 GEC1/IO77RSB1 (io) "Global Input/Output", 20 GEB1/IO75RSB1 (io) "Global Input/Output", 21 GEB0/IO74RSB1 (io) "Global Input/Output", 22 GEA1/IO73RSB1 (io) "Global Input/Output", 23 GEA0/IO72RSB1 (io) "Global Input/Output", 26 GEA2/IO71RSB1 (io) "Global Input/Output", 27 GEB2/IO70RSB1 (io) "Global Input/Output", 28 GEC2/IO69RSB1 (io) "Global Input/Output", 29 IO68RSB1 (io) "User Input/Output", 30 IO67RSB1 (io) "User Input/Output", 31 IO66RSB1 (io) "User Input/Output", 32 IO65RSB1 (io) "User Input/Output", 33 IO64RSB1 (io) "User Input/Output", 34 IO63RSB1 (io) "User Input/Output", 35 IO62RSB1 (io) "User Input/Output", 36 IO61RSB1 (io) "User Input/Output", 40 IO60RSB1 (io) "User Input/Output", 41 IO59RSB1 (io) "User Input/Output", 42 IO58RSB1 (io) "User Input/Output", 43 IO57RSB1 (io) "User Input/Output", 44 GDC2/IO56RSB1 (io) "Global Input/Output", 45 GDB2/IO55RSB1 (io) "Global Input/Output", 46 GDA2/IO54RSB1 (io) "Global Input/Output"
part C pins: 47 TCK (in) "Test Clock", 48 TDI (in) "Test Data Input", 49 TMS (in) "Test Mode Select", 54 TDO (out) "Test Data Output", 55 TRST (in) "Boundary Scan Reset Pin"
part D pins: 17 VCC (power) "Core Supply Voltage", 18 VCCIB1 (power) "I/O Supply Voltage", 24 VMV1 (power) "I/O Supply Voltage (quiet)", 37 VCC (power) "Core Supply Voltage", 39 VCCIB1 (power) "I/O Supply Voltage", 50 VMV1 (power) "I/O Supply Voltage (quiet)", 52 VPUMP (power) "Programming Supply Voltage", 56 VJTAG (power) "JTAG Supply Voltage", 66 VCCIB0 (power) "I/O Supply Voltage", 68 VCC (power) "Core Supply Voltage", 74 VMV0 (power) "I/O Supply Voltage (quiet)", 87 VCCIB0 (power) "I/O Supply Voltage", 89 VCC (power) "Core Supply Voltage"
part E pins: 1 GND (power) "Ground", 9 GND (power) "Ground", 25 GNDQ (power) "Ground (Quiet)", 38 GND (power) "Ground", 51 GND (power) "Ground", 53 NC "No Connect", 67 GND (power) "Ground", 75 GNDQ (power) "Ground (Quiet)", 88 GND (power) "Ground"
part F pins: 12 VCOMPLF (power) "PLL Ground", 14 VCCPLF (power) "PLL Supply Voltage"
part A text: BANK 0
part B text: BANK 1

## A3PN060-2VQG100I
designator U?
ProASIC3 nano Flash FPGA, 71 User IOs, 60K System Gates, Speed 25% above Standard, 100-Pin VQFP, Pb-Free, Industrial Grade; Published: 30-Apr-2009; DatasheetVersion: v1.2, Dec-2008; PackageVersion: v11.0, Feb-2009; PackageReference: VQ100; Publisher: Altium Limited; PackageDescription: 100-Pin Plastic Quad Flat Pack (VQ100); Code_JEDEC: MS-026-AED; ComponentLink1Description: Manufacturer Link; ComponentLink1URL: http://www.actel.com/products/pa3nano/default.aspx; ComponentLink2Description: Datasheet; ComponentLink2URL: http://www.actel.com/documents/PA3_nano_HB.pdf; ComponentLink3Description: Packaging Specification; ComponentLink3URL: http://www.actel.com/documents/PckgMechDrwngs.pdf
footprint VQ100_N (Thin QFP, 100-Leads, Body 14x14mm, Pitch 0.5mm, IPC Medium Density)
footprint VQ100_L (Thin QFP, 100-Leads, Body 14x14mm, Pitch 0.5mm, IPC High Density)
footprint VQ100_M (Thin QFP, 100-Leads, Body 14x14mm, Pitch 0.5mm, IPC Low Density)
3D model A3PN060-VQ100 (100-Pin Plastic Quad Flat Pack (VQ100))
signal-integrity model A3PN060_VQ100 (ProASIC3 nano)
part A pins: 57 GDA1/IO49RSB0 (io) "Global Input/Output", 58 GDC0/IO46RSB0 (io) "Global Input/Output", 59 GDC1/IO45RSB0 (io) "Global Input/Output", 60 GCC2/IO43RSB0 (io) "Global Input/Output", 61 GCB2/IO42RSB0 (io) "Global Input/Output", 62 GCA0/IO40RSB0 (io) "Global Input/Output", 63 GCA1/IO39RSB0 (io) "Global Input/Output", 64 GCC0/IO36RSB0 (io) "Global Input/Output", 65 GCC1/IO35RSB0 (io) "Global Input/Output", 69 IO31RSB0 (io) "User Input/Output", 70 GBC2/IO29RSB0 (io) "Global Input/Output", 71 GBB2/IO27RSB0 (io) "Global Input/Output", 72 IO26RSB0 (io) "User Input/Output", 73 GBA2/IO25RSB0 (io) "Global Input/Output", 76 GBA1/IO24RSB0 (io) "Global Input/Output", 77 GBA0/IO23RSB0 (io) "Global Input/Output", 78 GBB1/IO22RSB0 (io) "Global Input/Output", 79 GBB0/IO21RSB0 (io) "Global Input/Output", 80 GBC1/IO20RSB0 (io) "Global Input/Output", 81 GBC0/IO19RSB0 (io) "Global Input/Output", 82 IO18RSB0 (io) "User Input/Output", 83 IO17RSB0 (io) "User Input/Output", 84 IO15RSB0 (io) "User Input/Output", 85 IO13RSB0 (io) "User Input/Output", 86 IO11RSB0 (io) "User Input/Output", 90 IO10RSB0 (io) "User Input/Output", 91 IO09RSB0 (io) "User Input/Output", 92 IO08RSB0 (io) "User Input/Output", 93 GAC1/IO07RSB0 (io) "Global Input/Output", 94 GAC0/IO06RSB0 (io) "Global Input/Output", 95 GAB1/IO05RSB0 (io) "Global Input/Output", 96 GAB0/IO04RSB0 (io) "Global Input/Output", 97 GAA1/IO03RSB0 (io) "Global Input/Output", 98 GAA0/IO02RSB0 (io) "Global Input/Output", 99 IO01RSB0 (io) "User Input/Output", 100 IO00RSB0 (io) "User Input/Output"
part B pins: 2 GAA2/IO51RSB1 (io) "Global Input/Output", 3 IO52RSB1 (io) "User Input/Output", 4 GAB2/IO53RSB1 (io) "Global Input/Output", 5 IO95RSB1 (io) "User Input/Output", 6 GAC2/IO94RSB1 (io) "Global Input/Output", 7 IO93RSB1 (io) "User Input/Output", 8 IO92RSB1 (io) "User Input/Output", 10 GFB1/IO87RSB1 (io) "Global Input/Output", 11 GFB0/IO86RSB1 (io) "Global Input/Output", 13 GFA0/IO85RSB1 (io) "Global Input/Output", 15 GFA1/IO84RSB1 (io) "Global Input/Output", 16 GFA2/IO83RSB1 (io) "Global Input/Output", 19 GEC1/IO77RSB1 (io) "Global Input/Output", 20 GEB1/IO75RSB1 (io) "Global Input/Output", 21 GEB0/IO74RSB1 (io) "Global Input/Output", 22 GEA1/IO73RSB1 (io) "Global Input/Output", 23 GEA0/IO72RSB1 (io) "Global Input/Output", 26 GEA2/IO71RSB1 (io) "Global Input/Output", 27 GEB2/IO70RSB1 (io) "Global Input/Output", 28 GEC2/IO69RSB1 (io) "Global Input/Output", 29 IO68RSB1 (io) "User Input/Output", 30 IO67RSB1 (io) "User Input/Output", 31 IO66RSB1 (io) "User Input/Output", 32 IO65RSB1 (io) "User Input/Output", 33 IO64RSB1 (io) "User Input/Output", 34 IO63RSB1 (io) "User Input/Output", 35 IO62RSB1 (io) "User Input/Output", 36 IO61RSB1 (io) "User Input/Output", 40 IO60RSB1 (io) "User Input/Output", 41 IO59RSB1 (io) "User Input/Output", 42 IO58RSB1 (io) "User Input/Output", 43 IO57RSB1 (io) "User Input/Output", 44 GDC2/IO56RSB1 (io) "Global Input/Output", 45 GDB2/IO55RSB1 (io) "Global Input/Output", 46 GDA2/IO54RSB1 (io) "Global Input/Output"
part C pins: 47 TCK (in) "Test Clock", 48 TDI (in) "Test Data Input", 49 TMS (in) "Test Mode Select", 54 TDO (out) "Test Data Output", 55 TRST (in) "Boundary Scan Reset Pin"
part D pins: 17 VCC (power) "Core Supply Voltage", 18 VCCIB1 (power) "I/O Supply Voltage", 24 VMV1 (power) "I/O Supply Voltage (quiet)", 37 VCC (power) "Core Supply Voltage", 39 VCCIB1 (power) "I/O Supply Voltage", 50 VMV1 (power) "I/O Supply Voltage (quiet)", 52 VPUMP (power) "Programming Supply Voltage", 56 VJTAG (power) "JTAG Supply Voltage", 66 VCCIB0 (power) "I/O Supply Voltage", 68 VCC (power) "Core Supply Voltage", 74 VMV0 (power) "I/O Supply Voltage (quiet)", 87 VCCIB0 (power) "I/O Supply Voltage", 89 VCC (power) "Core Supply Voltage"
part E pins: 1 GND (power) "Ground", 9 GND (power) "Ground", 25 GNDQ (power) "Ground (Quiet)", 38 GND (power) "Ground", 51 GND (power) "Ground", 53 NC "No Connect", 67 GND (power) "Ground", 75 GNDQ (power) "Ground (Quiet)", 88 GND (power) "Ground"
part F pins: 12 VCOMPLF (power) "PLL Ground", 14 VCCPLF (power) "PLL Supply Voltage"
part A text: BANK 0
part B text: BANK 1

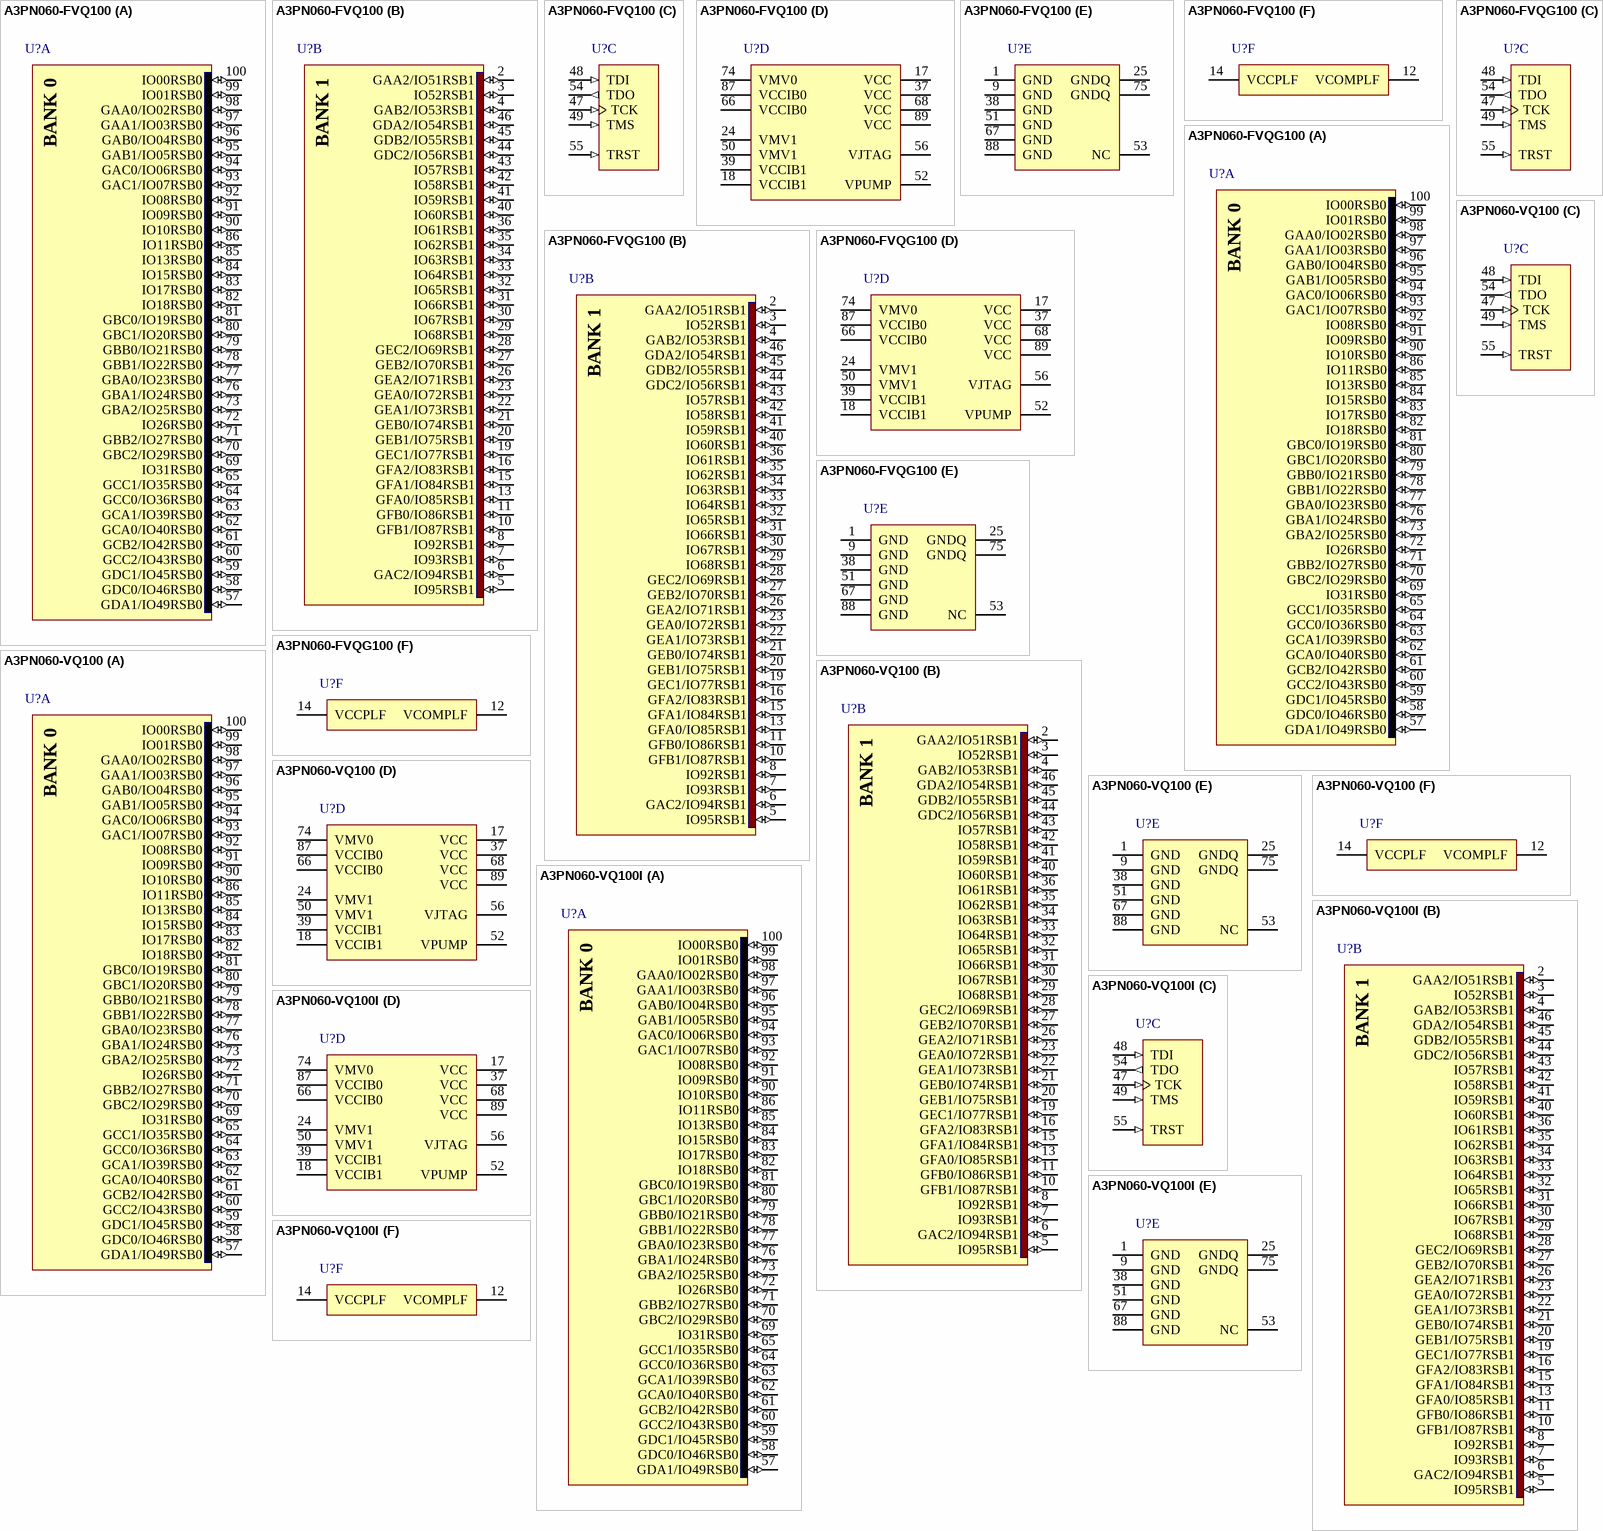
[diagram p2: symbols A3PN060-FVQ100 to A3PN060-VQ100I]

## A3PN060-FVQ100
designator U?
ProASIC3 nano Flash FPGA, 71 User IOs, 60K System Gates, Speed 20% below Standard, 100-Pin VQFP, Commerical Grade; Published: 30-Apr-2009; DatasheetVersion: v1.2, Dec-2008; PackageVersion: v11.0, Feb-2009; PackageReference: VQ100; Publisher: Altium Limited; PackageDescription: 100-Pin Plastic Quad Flat Pack (VQ100); Code_JEDEC: MS-026-AED; ComponentLink1Description: Manufacturer Link; ComponentLink1URL: http://www.actel.com/products/pa3nano/default.aspx; ComponentLink2Description: Datasheet; ComponentLink2URL: http://www.actel.com/documents/PA3_nano_HB.pdf; ComponentLink3Description: Packaging Specification; ComponentLink3URL: http://www.actel.com/documents/PckgMechDrwngs.pdf
footprint VQ100_N (Thin QFP, 100-Leads, Body 14x14mm, Pitch 0.5mm, IPC Medium Density)
footprint VQ100_L (Thin QFP, 100-Leads, Body 14x14mm, Pitch 0.5mm, IPC High Density)
footprint VQ100_M (Thin QFP, 100-Leads, Body 14x14mm, Pitch 0.5mm, IPC Low Density)
3D model A3PN060-VQ100 (100-Pin Plastic Quad Flat Pack (VQ100))
signal-integrity model A3PN060_VQ100 (ProASIC3 nano)
part A pins: 57 GDA1/IO49RSB0 (io) "Global Input/Output", 58 GDC0/IO46RSB0 (io) "Global Input/Output", 59 GDC1/IO45RSB0 (io) "Global Input/Output", 60 GCC2/IO43RSB0 (io) "Global Input/Output", 61 GCB2/IO42RSB0 (io) "Global Input/Output", 62 GCA0/IO40RSB0 (io) "Global Input/Output", 63 GCA1/IO39RSB0 (io) "Global Input/Output", 64 GCC0/IO36RSB0 (io) "Global Input/Output", 65 GCC1/IO35RSB0 (io) "Global Input/Output", 69 IO31RSB0 (io) "User Input/Output", 70 GBC2/IO29RSB0 (io) "Global Input/Output", 71 GBB2/IO27RSB0 (io) "Global Input/Output", 72 IO26RSB0 (io) "User Input/Output", 73 GBA2/IO25RSB0 (io) "Global Input/Output", 76 GBA1/IO24RSB0 (io) "Global Input/Output", 77 GBA0/IO23RSB0 (io) "Global Input/Output", 78 GBB1/IO22RSB0 (io) "Global Input/Output", 79 GBB0/IO21RSB0 (io) "Global Input/Output", 80 GBC1/IO20RSB0 (io) "Global Input/Output", 81 GBC0/IO19RSB0 (io) "Global Input/Output", 82 IO18RSB0 (io) "User Input/Output", 83 IO17RSB0 (io) "User Input/Output", 84 IO15RSB0 (io) "User Input/Output", 85 IO13RSB0 (io) "User Input/Output", 86 IO11RSB0 (io) "User Input/Output", 90 IO10RSB0 (io) "User Input/Output", 91 IO09RSB0 (io) "User Input/Output", 92 IO08RSB0 (io) "User Input/Output", 93 GAC1/IO07RSB0 (io) "Global Input/Output", 94 GAC0/IO06RSB0 (io) "Global Input/Output", 95 GAB1/IO05RSB0 (io) "Global Input/Output", 96 GAB0/IO04RSB0 (io) "Global Input/Output", 97 GAA1/IO03RSB0 (io) "Global Input/Output", 98 GAA0/IO02RSB0 (io) "Global Input/Output", 99 IO01RSB0 (io) "User Input/Output", 100 IO00RSB0 (io) "User Input/Output"
part B pins: 2 GAA2/IO51RSB1 (io) "Global Input/Output", 3 IO52RSB1 (io) "User Input/Output", 4 GAB2/IO53RSB1 (io) "Global Input/Output", 5 IO95RSB1 (io) "User Input/Output", 6 GAC2/IO94RSB1 (io) "Global Input/Output", 7 IO93RSB1 (io) "User Input/Output", 8 IO92RSB1 (io) "User Input/Output", 10 GFB1/IO87RSB1 (io) "Global Input/Output", 11 GFB0/IO86RSB1 (io) "Global Input/Output", 13 GFA0/IO85RSB1 (io) "Global Input/Output", 15 GFA1/IO84RSB1 (io) "Global Input/Output", 16 GFA2/IO83RSB1 (io) "Global Input/Output", 19 GEC1/IO77RSB1 (io) "Global Input/Output", 20 GEB1/IO75RSB1 (io) "Global Input/Output", 21 GEB0/IO74RSB1 (io) "Global Input/Output", 22 GEA1/IO73RSB1 (io) "Global Input/Output", 23 GEA0/IO72RSB1 (io) "Global Input/Output", 26 GEA2/IO71RSB1 (io) "Global Input/Output", 27 GEB2/IO70RSB1 (io) "Global Input/Output", 28 GEC2/IO69RSB1 (io) "Global Input/Output", 29 IO68RSB1 (io) "User Input/Output", 30 IO67RSB1 (io) "User Input/Output", 31 IO66RSB1 (io) "User Input/Output", 32 IO65RSB1 (io) "User Input/Output", 33 IO64RSB1 (io) "User Input/Output", 34 IO63RSB1 (io) "User Input/Output", 35 IO62RSB1 (io) "User Input/Output", 36 IO61RSB1 (io) "User Input/Output", 40 IO60RSB1 (io) "User Input/Output", 41 IO59RSB1 (io) "User Input/Output", 42 IO58RSB1 (io) "User Input/Output", 43 IO57RSB1 (io) "User Input/Output", 44 GDC2/IO56RSB1 (io) "Global Input/Output", 45 GDB2/IO55RSB1 (io) "Global Input/Output", 46 GDA2/IO54RSB1 (io) "Global Input/Output"
part C pins: 47 TCK (in) "Test Clock", 48 TDI (in) "Test Data Input", 49 TMS (in) "Test Mode Select", 54 TDO (out) "Test Data Output", 55 TRST (in) "Boundary Scan Reset Pin"
part D pins: 17 VCC (power) "Core Supply Voltage", 18 VCCIB1 (power) "I/O Supply Voltage", 24 VMV1 (power) "I/O Supply Voltage (quiet)", 37 VCC (power) "Core Supply Voltage", 39 VCCIB1 (power) "I/O Supply Voltage", 50 VMV1 (power) "I/O Supply Voltage (quiet)", 52 VPUMP (power) "Programming Supply Voltage", 56 VJTAG (power) "JTAG Supply Voltage", 66 VCCIB0 (power) "I/O Supply Voltage", 68 VCC (power) "Core Supply Voltage", 74 VMV0 (power) "I/O Supply Voltage (quiet)", 87 VCCIB0 (power) "I/O Supply Voltage", 89 VCC (power) "Core Supply Voltage"
part E pins: 1 GND (power) "Ground", 9 GND (power) "Ground", 25 GNDQ (power) "Ground (Quiet)", 38 GND (power) "Ground", 51 GND (power) "Ground", 53 NC "No Connect", 67 GND (power) "Ground", 75 GNDQ (power) "Ground (Quiet)", 88 GND (power) "Ground"
part F pins: 12 VCOMPLF (power) "PLL Ground", 14 VCCPLF (power) "PLL Supply Voltage"
part A text: BANK 0
part B text: BANK 1